# Altium schematic symbol library dcdc.SchLib: 9 symbols
Pins are listed as number, name and electrical type; pins without a type are passive.

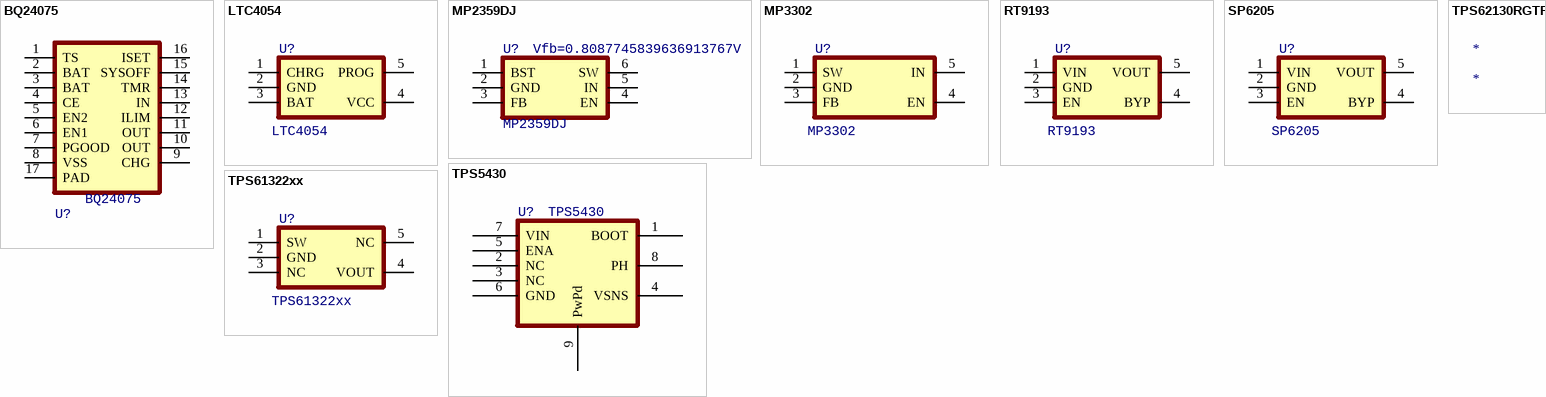
[diagram p0: symbols BQ24075 to TPS62130RGTR]

## BQ24075
designator U?
Power; Type: QFN16 P0.5
footprint _QFN_P0.5_PAD_16
pins: 1 TS, 2 BAT, 3 BAT, 4 CE, 5 EN2, 6 EN1, 7 PGOOD, 8 VSS, 9 CHG, 10 OUT, 11 OUT, 12 ILIM, 13 IN, 14 TMR, 15 SYSOFF, 16 ISET, 17 PAD

## LTC4054
designator U?
Charger
footprint _SOT23-5
pins: 1 CHRG, 2 GND, 3 BAT, 4 VCC, 5 PROG

## MP2359DJ
designator U?
1.2A, 24V, 1.4MHz Step-Down Converter; Value: 3V3; Type: SOT23-5
footprint _SOT23-6
pins: 1 BST, 2 GND, 3 FB (power), 4 EN, 5 IN, 6 SW
text: Vfb=0.8087745839636913767V

## MP3302
designator U?
LED Driver
footprint _SOT23-5
pins: 1 SW, 2 GND, 3 FB, 4 EN, 5 IN

## RT9193
designator U?
Power; Value: 3V3; Type: SOT23-5
footprint _SOT23-5
pins: 1 VIN, 2 GND, 3 EN (power), 4 BYP, 5 VOUT

## SP6205
designator U?
Power; Value: 3V3; Type: SOT23-5
footprint _SOT23-5
pins: 1 VIN, 2 GND, 3 EN (power), 4 BYP, 5 VOUT

## TPS5430
designator U?
Power
footprint TI HSOP-8 (SOP, 8-Leads, Body 4.90x3.90mm, Pitch 1.27mm, IPC Medium Density)
pins: 1 BOOT, 2 NC, 3 NC, 4 VSNS, 5 ENA, 6 GND, 7 VIN, 8 PH, 9 PwPd

## TPS61322xx
designator U?
Power; Value: 5V; Type: SOT23-5
footprint _SOT23-5
pins: 1 SW, 2 GND, 3 NC, 4 VOUT, 5 NC

## TPS62130RGTR
designator *
Power